# Altium schematic symbol library sensor.SCHLIB: 21 symbols
Pins are listed as number, name and electrical type; pins without a type are passive.

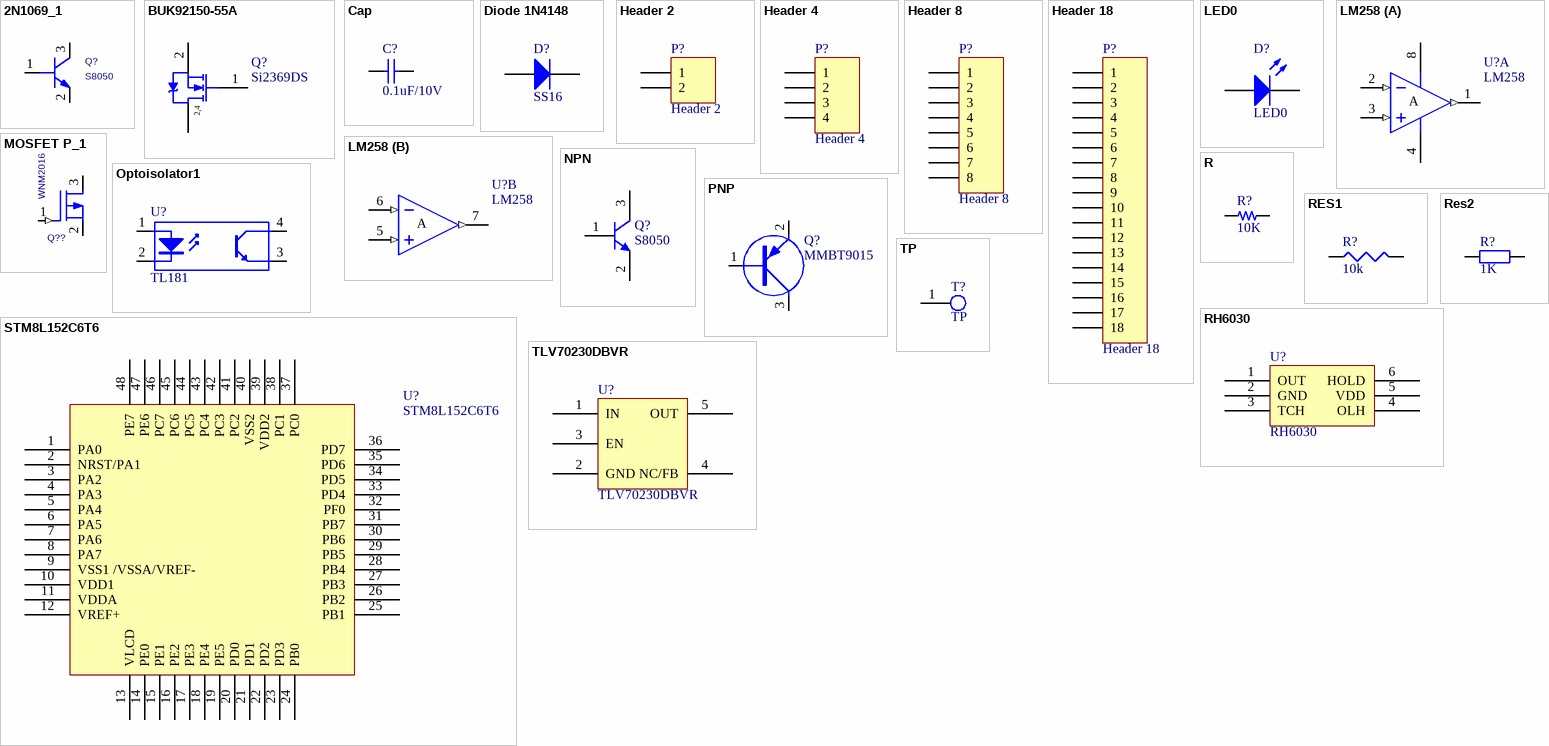
[diagram p0: symbols 2N1069_1 to TP]

## 2N1069_1
designator Q?, comment S8050
PspiceTemplate: Q^@REFDES %C %B %E
simulation model 2N1069_1
footprint SOT23
pins: 1 B, 2 E, 3 C

## BUK92150-55A
designator Q?, comment Si2369DS
BUK92150-55A; Published: 8-Jun-2000; LatestRevisionDate: 17-Jul-2002; LatestRevisionNote: Re-released for DXP Platform.; DatasheetVersion: 6-Oct-1997; PackageVersion: Aug-1998; PackageReference: TSOP-6; Publisher: Altium Limited; PackageDescription: SOT-457/SC-74; 6 Leads; Body 3.1 x 3 mm, inc. leads (LxW max); ComponentLink1Description: Manufacturer Link; ComponentLink1URL: http://www.vishay.com/; ComponentLink2Description: Datasheet; ComponentLink2URL: http://www.vishay.com/docs/70192/70192.pdf
simulation model SI3442DV (SUBCKT)
footprint SOT23-3
pins: 1 G, 2 S, 3 D
text: 2,4

## Cap
designator C?, comment 0.1uF/10V
Capacitor; Value: 104; Published: 8-Jun-2000; LatestRevisionDate: 17-Jul-2002; LatestRevisionNote: Re-released for DXP Platform.; PackageReference: RAD-0.3; Publisher: Altium Limited
simulation model CAP (Capacitor)
signal-integrity model Cap
footprint C0603
footprint 0603C
pins: 1, 2

## Diode 1N4148
designator D?, comment SS16
High Conductance Fast Diode; Published: 8-Jun-2000; LatestRevisionDate: 17-Jul-2002; LatestRevisionNote: Re-released for DXP Platform.; DatasheetVersion: 1997; PackageReference: DO-35; Publisher: Altium Limited; Code_JEDEC: DO-204-AH; ComponentLink1Description: Manufacturer Link; ComponentLink1URL: http://www.fairchildsemi.com/; ComponentLink2Description: Datasheet; ComponentLink2URL: http://www.fairchildsemi.com/ds/1N%2F1N4148.pdf
footprint SMA
simulation model 1N4148 (DIODE)
signal-integrity model 1N4148
pins: 1 A, 2 K

## Header 2
designator P?
Header, 2-Pin; LatestRevisionDate: 17-Jul-2002; LatestRevisionNote: Re-released for DXP Platform.; Publisher: Altium Limited
footprint 2X2.54MM
signal-integrity model Connector
pins: 1, 2

## Header 4
designator P?
Header, 4-Pin; LatestRevisionDate: 17-Jul-2002; LatestRevisionNote: Re-released for DXP Platform.; Publisher: Altium Limited
footprint HDR1X4 (Connector; Header; 4 Position)
signal-integrity model Connector
pins: 1, 2, 3, 4

## Header 8
designator P?
Header, 8-Pin; LatestRevisionDate: 17-Jul-2002; LatestRevisionNote: Re-released for DXP Platform.; Publisher: Altium Limited
footprint HDR1X8 (Connector; Header; 8 Position)
signal-integrity model Connector
pins: 1, 2, 3, 4, 5, 6, 7, 8

## Header 18
designator P?
Header, 18-Pin; LatestRevisionDate: 17-Jul-2002; LatestRevisionNote: Re-released for DXP Platform.; Publisher: Altium Limited
footprint lcd
signal-integrity model Connector
pins: 1, 2, 3, 4, 5, 6, 7, 8, 9, 10, 11, 12, 13, 14, 15, 16, 17, 18

## LED0
designator D?
Typical INFRARED GaAs LED; Published: 8-Jun-2000; LatestRevisionDate: 08-Jul-2005; LatestRevisionNote: Mech Layer 1 removed.; PackageReference: LED-0; Publisher: Altium Limited
simulation model LED0 (Diode)
footprint 0603LED
pins: 1 A, 2 K

## LM258
designator U?
footprint so-8
part A pins: 1 OUT (out), 2 IN- (in), 3 IN+ (in), 4 V- (power), 8 V+ (power)
part B pins: 5 IN+ (in), 6 IN- (in), 7 OUT (out)
part A text: A
part B text: A

## MOSFET P_1
designator Q??, comment WNM2016-3
Color: RGB(255,  0,  0)
footprint SOT23
pins: 1 GATE (in), 2 DRAIN, 3 SOURCE

## NPN
designator Q?, comment S8050
footprint SOT23-3
pins: 1 B, 2 E, 3 C

## Optoisolator1
designator U?, comment TL181
4-Pin Phototransistor Optocoupler; Published: 24-Mar-1999; LatestRevisionDate: 04-Mar-2005; LatestRevisionNote: Sch pins 3 & 4 Swapped.; DatasheetVersion: Nov-2003; PackageReference: DIP-4; Publisher: Altium Limited
footprint DIP-4 (DIP; 4 Leads; Row Spacing 7.62 mm; Pitch 2.54 mm)
pins: 1 A "Anode", 2 K "Cathode", 3 E "Emitter", 4 C "Collector"

## PNP
designator Q?, comment MMBT9015
footprint SOT23-3
footprint T_DPak
footprint T_SOT223
footprint T_SOT89
pins: 1 B, 2 E, 3 C

## R
designator R?, comment 10K
R
footprint 0805R
footprint 0603R
footprint 0603R
footprint R3
pins: 1, 2

## RES1
designator R?, comment 10k
P: 1/8W
footprint 0805
footprint 0603
footprint 0402
footprint 1206
footprint DIP FERRITE (5mm)
footprint RES 5W (8.70mm x 23.80mm)
footprint R_5*14_L
footprint 0603R
footprint 0402R (Chip Resistor, Body 1.1x0.5mm, IPC Medium Density)
footprint 0805R (Chip Resistor, Body 2.0x1.3mm, IPC Medium Density)
footprint 1206R (Chip Resistor, Body 3.2x1.6mm, IPC Medium Density)
footprint 1812R (Chip Resistor, Body 4.5x3.2mm, IPC Medium Density)
pins: 1, 2

## Res2
designator R?, comment 1K
Resistor; Published: 8-Jun-2000; LatestRevisionDate: 17-Jul-2002; LatestRevisionNote: Re-released for DXP Platform.; PackageReference: AXIAL-0.4; Publisher: Altium Limited; Value: 1K
simulation model RESISTOR (Resistor)
signal-integrity model Res
footprint 0603R
pins: 1, 2

## RH6030
designator U?
footprint SOT-23-6
pins: 1 OUT, 2 GND, 3 TCH, 4 OLH, 5 VDD, 6 HOLD

## STM8L152C6T6
designator U?
footprint TQFP-48
pins: 1 PA0, 2 NRST/PA1, 3 PA2, 4 PA3, 5 PA4, 6 PA5, 7 PA6, 8 PA7, 9 VSS1 /VSSA/VREF-, 10 VDD1, 11 VDDA, 12 VREF+, 13 VLCD, 14 PE0, 15 PE1, 16 PE2, 17 PE3, 18 PE4, 19 PE5, 20 PD0, 21 PD1, 22 PD2, 23 PD3, 24 PB0, 25 PB1, 26 PB2, 27 PB3, 28 PB4, 29 PB5, 30 PB6, 31 PB7, 32 PF0, 33 PD4, 34 PD5, 35 PD6, 36 PD7, 37 PC0, 38 PC1, 39 VDD2, 40 VSS2, 41 PC2, 42 PC3, 43 PC4, 44 PC5, 45 PC6, 46 PC7, 47 PE6, 48 PE7

## TLV70230DBVR
designator U?
footprint SOT23-5(DBV)
pins: 1 IN, 2 GND, 3 EN, 4 NC/FB, 5 OUT

## TP
designator T?
footprint TOUCH-PAD
pins: 1